# Altium schematic symbol library SCH - LEVEL TRANSLATOR - TI TXB0108PWR.SCHLIB: 1 symbol
Pins are listed as number, name and electrical type; pins without a type are passive.

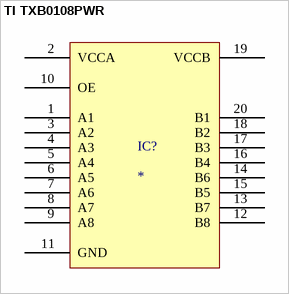
[diagram p0: symbol TI TXB0108PWR]

## TI TXB0108PWR
designator IC?
pins: 1 A1, 2 VCCA, 3 A2, 4 A3, 5 A4, 6 A5, 7 A6, 8 A7, 9 A8, 10 OE, 11 GND, 12 B8, 13 B7, 14 B6, 15 B5, 16 B4, 17 B3, 18 B2, 19 VCCB, 20 B1